# EAGLE library part CON_FPC_30POS_SMT_TKP_P05DL-30SMT-ZL(LF) (library WCSMain)
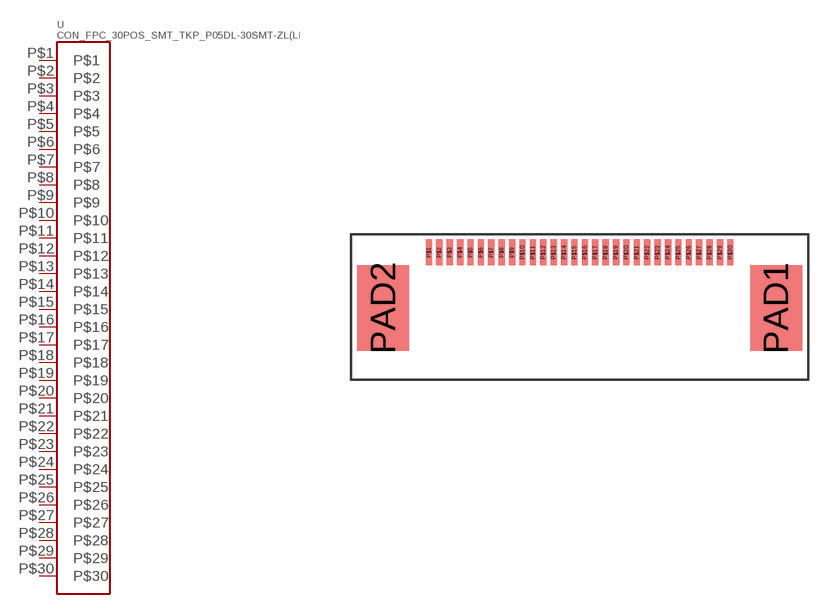
[diagram p29: symbol with the pads of CON_FPC_30POS_SMT_TKP_P05DL-30SMT-ZL(LF); footprint CON_FPC_30POS_SMT_TKP_P05DL-30SMT-ZL(LF)]

Designator prefix -

## CON_FPC_30POS_SMT_TKP_P05DL-30SMT-ZL(LF)  [CON_FPC_30POS_SMT_TKP_P05DL-30SMT-ZL(LF)]
P$1  P$1  pas
P$2  P$2  pas
P$3  P$3  pas
P$4  P$4  pas
P$5  P$5  pas
P$6  P$6  pas
P$7  P$7  pas
P$8  P$8  pas
P$9  P$9  pas
P$10  P$10  pas
P$11  P$11  pas
P$12  P$12  pas
P$13  P$13  pas
P$14  P$14  pas
P$15  P$15  pas
P$16  P$16  pas
P$17  P$17  pas
P$18  P$18  pas
P$19  P$19  pas
P$20  P$20  pas
P$21  P$21  pas
P$22  P$22  pas
P$23  P$23  pas
P$24  P$24  pas
P$25  P$25  pas
P$26  P$26  pas
P$27  P$27  pas
P$28  P$28  pas
P$29  P$29  pas
P$30  P$30  pas

## Footprint CON_FPC_30POS_SMT_TKP_P05DL-30SMT-ZL(LF) (pad centres in mm)
smd 0.3 x 1.25: P$1 -7.25,0.625; P$2 -6.75,0.625; P$3 -6.25,0.625; P$4 -5.75,0.625; P$5 -5.25,0.625; P$6 -4.75,0.625; P$7 -4.25,0.625; P$8 -3.75,0.625; P$9 -3.25,0.625; P$10 -2.75,0.625; P$11 -2.25,0.625; P$12 -1.75,0.625; P$13 -1.25,0.625; P$14 -0.75,0.625; P$15 -0.25,0.625; P$16 0.25,0.625; P$17 0.75,0.625; P$18 1.25,0.625; P$19 1.75,0.625; P$20 2.25,0.625; P$21 2.75,0.625; P$22 3.25,0.625; P$23 3.75,0.625; P$24 4.25,0.625; P$25 4.75,0.625; P$26 5.25,0.625; P$27 5.75,0.625; P$28 6.25,0.625; P$29 6.75,0.625; P$30 7.25,0.625
smd 2.5 x 4.1: PAD1 9.45,-2.05; PAD2 -9.45,-2.05